# EAGLE library part BQ25504 (library template)
Ultra Low Power Boost Converter with Battery Management for Energy Harvester Applications http://www.ti.com/lit/ds/symlink/bq25504.pdf
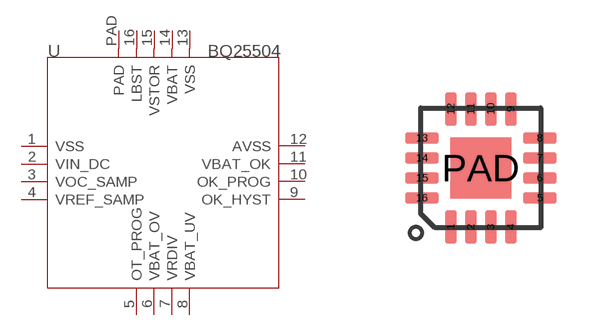
[diagram p6: symbol with the pads of QFN16; footprint QFN16]

Designator prefix U

## BQ25504  [QFN16]
1  VSS  in
2  VIN_DC  in
3  VOC_SAMP  in
4  VREF_SAMP  in
5  OT_PROG  in
6  VBAT_OV  in
7  VRDIV  out
8  VBAT_UV  in
9  OK_HYST  in
10  OK_PROG  in
11  VBAT_OK  out
12  AVSS  sup
13  VSS  sup
14  VBAT
15  VSTOR  out
16  LBST  in
PAD  PAD  in

## Footprint QFN16 (pad centres in mm)
smd 0.28 x 0.85: 1 -0.75,-1.475; 2 -0.25,-1.475; 3 0.25,-1.475; 4 0.75,-1.475; 9 0.75,1.475; 10 0.25,1.475; 11 -0.25,1.475; 12 -0.75,1.475
smd 0.85 x 0.28: 5 1.475,-0.75; 6 1.475,-0.25; 7 1.475,0.25; 8 1.475,0.75; 13 -1.475,0.75; 14 -1.475,0.25; 15 -1.475,-0.25; 16 -1.475,-0.75
smd 1.524 x 1.524: PAD 0,0